# EAGLE library part CONNECTOR_11PIN (library lolomolo)
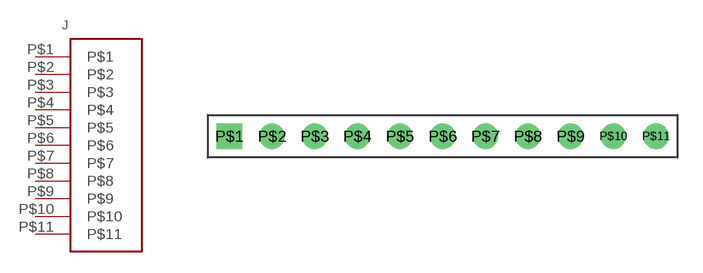
[diagram p5: symbol with the pads of 11PIN_.1'; footprint 11PIN_.1']

Designator prefix J

## CONNECTOR_11PIN  [11PIN_.1']
P$1  P$1
P$2  P$2
P$3  P$3
P$4  P$4
P$5  P$5
P$6  P$6
P$7  P$7
P$8  P$8
P$9  P$9
P$10  P$10
P$11  P$11

## Footprint 11PIN_.1' (pad centres in mm)
drill 0.991 square: P$1 -15.24,0
drill 0.991: P$2 -12.7,0; P$3 -10.16,0; P$4 -7.62,0; P$5 -5.08,0; P$6 -2.54,0; P$7 0,0; P$8 2.54,0; P$9 5.08,0; P$10 7.62,0; P$11 10.16,0